# Altium footprint library SnapEDApcb.PcbLib: 1 footprints
Each footprint in its own frame and in the unit in brackets; x right, y up, seen from the top. Pads: shape width x height; smd on the part's side, far side on the other; paste and mask are expansions set on the pad; w line width, h text height; cw(c..) or ccw(c..) is an arc to the next point about the centre after c.
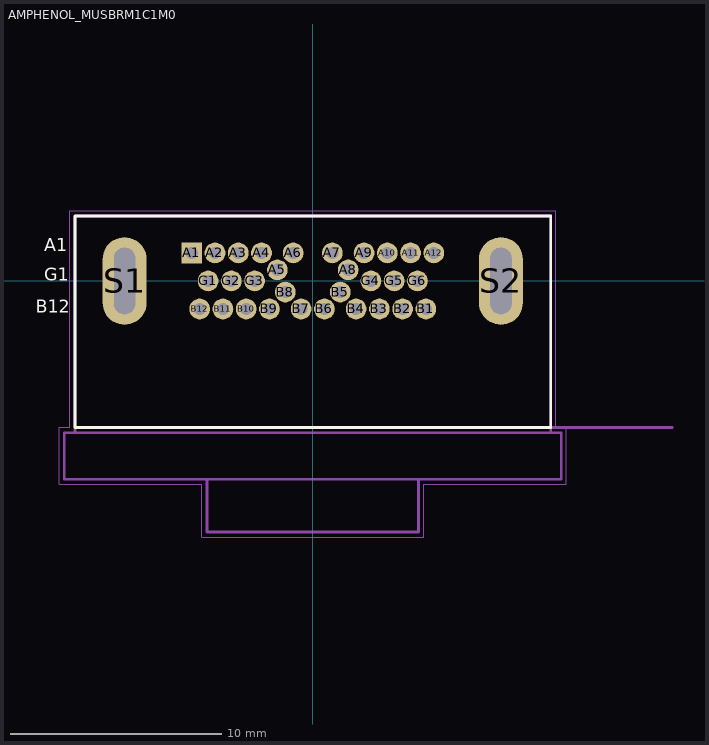
[diagram p0: the footprint, top view; thin cyan lines are the x and y axes]

## AMPHENOL_MUSBRM1C1M0 [mm]
pads (32):
  rect 0.98x0.98 hole 0.58: A1(-5.725,1.325)
  round 0.98 hole 0.58: A2(-4.625,1.325) A3(-3.525,1.325) A4(-2.425,1.325) A5(-1.675,0.525) A6(-0.925,1.325) A7(0.925,1.325) A8(1.675,0.525) A9(2.425,1.325) A10(3.525,1.325) A11(4.625,1.325) A12(5.725,1.325) B1(5.35,-1.325) B2(4.25,-1.325) B3(3.15,-1.325) B4(2.05,-1.325) B5(1.3,-0.525) B6(0.55,-1.325) B7(-0.55,-1.325) B8(-1.3,-0.525) B9(-2.05,-1.325) B10(-3.15,-1.325) B11(-4.25,-1.325) B12(-5.35,-1.325) G1(-4.95,0) G2(-3.85,0) G3(-2.75,0) G4(2.75,0) G5(3.85,0) G6(4.95,0)
  oval 2.075x4.15 hole 1 slot 3.15 at 90 deg: S1(-8.9,0) S2(8.9,0)
Top Overlay:
  lines w0.127: -11.25,-6.93 -11.25,3.075 11.25,3.075 11.25,-6.93 -11.25,-6.93
  text "A1" at -12.7,1.4 h0.61
  text "G1" at -12.7,0 h0.61
  text "B12" at -13.1,-1.5 h0.61
Mechanical 13:
  lines w0.127: 17,-6.93 11.25,-6.93 ; -11.25,-7.175 11.225,-7.175 11.25,-7.175 ; -11.25,-7.175 -11.25,-6.93 ; -11.25,-7.175 -11.75,-7.175 -11.75,-9.375 -5,-9.375 ; -11.25,-6.93 11.25,-6.93 ; -11.25,-6.93 -11.25,3.075 11.25,3.075 11.25,-6.93 ; -5,-9.375 5,-9.375 ; -5,-9.375 -5,-11.875 5,-11.875 5,-9.375 ; 5,-9.375 11.75,-9.375 11.75,-7.175 11.25,-7.175 ; 11.25,-7.175 11.25,-6.93
  text "PCB Edge" at 11.6,-6.5 h0.81
  text "A1" at -12.7,1.4 h0.61
  text "G1" at -12.7,0 h0.61
  text "B12" at -13.1,-1.5 h0.61
Mechanical 15:
  lines w0.05: -12,-9.625 -5.25,-9.625 -5.25,-12.125 5.25,-12.125 5.25,-9.625 12,-9.625 12,-6.925 11.5,-6.925 11.5,3.325 -11.5,3.325 -11.5,-6.925 -12,-6.925 -12,-9.625